# EAGLE library part HCPL-2430 (library TheMaker_v5)
20 MBd High CMR Logic Gate Optocouplers HCPL-2430 Agilent Technologies
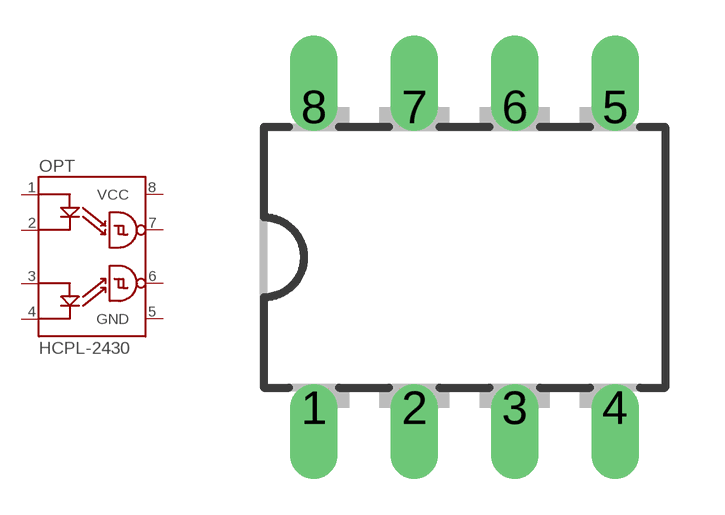
[diagram p11: symbol with the pads of DIP08; footprint DIP08]

Designator prefix OPT

## HCPL-2430  [DIP08]
1  P$1
2  P$2
3  P$3
4  P$4
5  GND
6  P$6
7  P$7
8  VCC

## Footprint DIP08 (pad centres in mm)
drill 0.7 offset: 1 -3.81,-3.81; 2 -1.27,-3.81; 3 1.27,-3.81; 4 3.81,-3.81; 5 3.81,3.81; 6 1.27,3.81; 7 -1.27,3.81; 8 -3.81,3.81